# Altium footprint library stomp_switch_through_hole.PcbLib: 1 footprints
Each footprint in its own frame and in the unit in brackets; x right, y up, seen from the top. Pads: shape width x height; smd on the part's side, far side on the other; paste and mask are expansions set on the pad; w line width, h text height; cw(c..) or ccw(c..) is an arc to the next point about the centre after c.
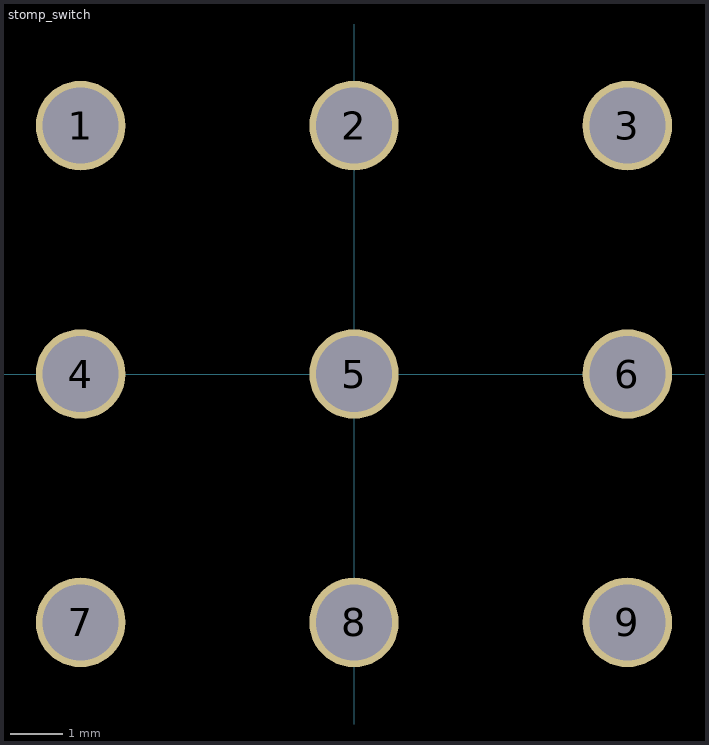
[diagram p0: the footprint, top view; thin cyan lines are the x and y axes]

## stomp_switch [mm] "stomp switch 3PDT"
pads (9):
  round 1.702 hole 1.45: 1(-5.2,4.725) 2(0,4.725) 3(5.2,4.725) 4(-5.2,0) 5(0,0) 6(5.2,0) 7(-5.2,-4.725) 8(0,-4.725) 9(5.2,-4.725)
3D body: height 37.5, standoff -4.7, extent -9.9,-8.55 9.9,8.55